# Altium schematic symbol library B39871B3725U410.SchLib: 1 symbol
Pins are listed as number, name and electrical type; pins without a type are passive.

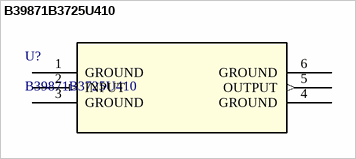
[diagram p0: symbol B39871B3725U410]

## B39871B3725U410
designator U?
Description; Manufacturer_Name: Qualcomm; Copyright: Copyright (C) 2025 Ultra Librarian. All rights reserved.; Manufacturer_Part_Number: B39871B3725U410; RefDes: RefDes; Type: Type
footprint B39871B3725U410_TDK
pins: 1 GROUND (power), 2 INPUT (in), 3 GROUND (power), 4 GROUND (power), 5 OUTPUT (out), 6 GROUND (power)